# Altium footprint library Connectors.PcbLib: 3 footprints
Each footprint in its own frame and in the unit in brackets; x right, y up, seen from the top. Pads: shape width x height; smd on the part's side, far side on the other; paste and mask are expansions set on the pad; w line width, h text height; cw(c..) or ccw(c..) is an arc to the next point about the centre after c.
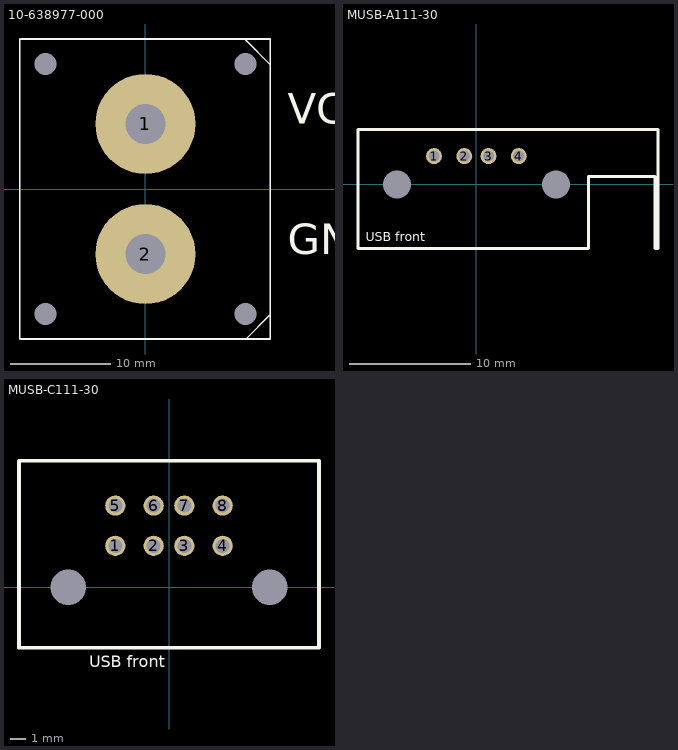
[diagram p0: the footprints below, top view; thin cyan lines are the x and y axes]

## 10-638977-000 [mm] "70A rated power connector Male PCB"
pads (6):
  round 10 hole 4: 1(0,6.5) 2(0,-6.5)
  round 0 hole 2.2: ""(-10,-12.5) ""(-10,12.5) ""(10,-12.5) ""(10,12.5)
Top Overlay:
  lines w0.152: -12.573,-14.986 -12.573,14.986 ; -12.446,-14.986 12.446,-14.986 12.446,14.986 -12.446,14.986 ; 10.033,-14.986 12.446,-12.573 ; 10.033,14.986 10.033,14.859 12.446,12.446
  text "GND" at 14.224,-6.5 h3.05
  text "VCC" at 14.224,6.5 h3.05
3D body: height 24.45, standoff -5.52, extent -12.573,-14.986 12.427,15.014

## MUSB-A111-30 [mm] "CONN RCPT USB SGL STD R/A PCB"
pads (6):
  round 1.32 hole 0.92: 1(-3.5,2.33) 2(-1,2.33) 3(1,2.33) 4(3.5,2.33)
  round 0 hole 2.3: ""(-6.57,0) ""(6.57,0)
Top Overlay:
  lines w0.254: -9.779,-5.3 9.25,-5.3 9.25,0.614 9.271,0.635 14.732,0.635 14.75,0.617 14.75,-5.3 15,-5.3 15,4.53 -9.779,4.53 -9.779,-5.3
  text "USB front" at -9.144,-4.699 h0.76
3D body: height 14, standoff -4, extent -15.24,-11.684 15.26,4.516

## MUSB-C111-30 [mm] "CONN RCPT USB STACK STD R/A PCB"
pads (10):
  round 1.32 hole 0.92: 1(-3.5,2.71) 2(-1,2.71) 3(1,2.71) 4(3.5,2.71) 5(-3.5,5.33) 6(-1,5.33) 7(1,5.33) 8(3.5,5.33)
  round 0 hole 2.3: ""(-6.57,0) ""(6.57,0)
Top Overlay:
  lines w0.254: -9.779,-3.937 -9.779,8.255 9.779,8.255 9.779,-3.937 -9.779,-3.937
  text "USB front" at -5.207,-5.207 h0.76
3D body: height 19, standoff -2.37, extent -15.24,-11.176 15.26,8.024